# EAGLE library part CANODE_SHIELD (library ASL)
This part provides an outline of the CANode to facilitate developing shield boards. Note that this does not show the position of the mounting holes for the 4-40 screws, which should be .12" holes centered in the 4 circles in the corners.
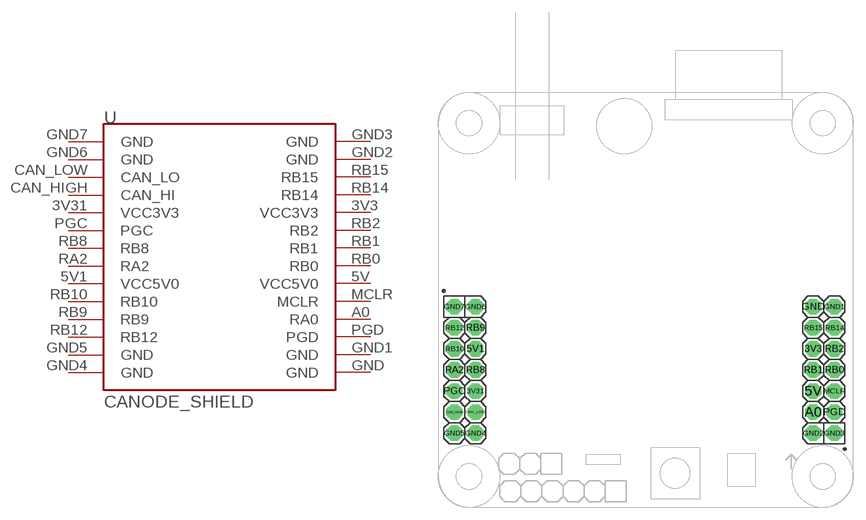
[diagram p31: symbol with the pads of CANODE_SHIELD; footprint CANODE_SHIELD]

Designator prefix -

## CANODE_SHIELD  [CANODE_SHIELD]
3V3  VCC3V3
3V31  VCC3V3
5V  VCC5V0
5V1  VCC5V0
A0  RA0
CAN_HIGH  CAN_HI
CAN_LOW  CAN_LO
GND  GND
GND1  GND
GND2  GND
GND3  GND
GND4  GND
GND5  GND
GND6  GND
GND7  GND
MCLR  MCLR
PGC  PGC
PGD  PGD
RA2  RA2
RB0  RB0
RB1  RB1
RB2  RB2
RB8  RB8
RB9  RB9
RB10  RB10
RB12  RB12
RB14  RB14
RB15  RB15

## Footprint CANODE_SHIELD (pad centres in mm)
This is an outline of the CANode to facilitate developing shield boards. Note that this does not show the position of the mounting holes for the 4-40 screws, which should be .12" holes centered in the 4 circles in the corners.
drill 1.016 pad 1.88 octagon: 3V3 45.085,19.05; 3V31 4.445,13.97; 5V 45.085,13.97; 5V1 4.445,19.05; A0 45.085,11.43; CAN_HIGH 1.905,11.43; CAN_LOW 4.445,11.43; GND 45.085,24.13; GND1 47.625,24.13; GND2 45.085,8.89; GND3 47.625,8.89; GND4 4.445,8.89; GND5 1.905,8.89; GND6 4.445,24.13; GND7 1.905,24.13; MCLR 47.625,13.97; PGC 1.905,13.97; PGD 47.625,11.43; RA2 1.905,16.51; RB0 47.625,16.51; RB1 45.085,16.51; RB2 47.625,19.05; RB8 4.445,16.51; RB9 4.445,21.59; RB10 1.905,19.05; RB12 1.905,21.59; RB14 47.625,21.59; RB15 45.085,21.59